# Altium footprint library DIODES PTH.PcbLib: 160 footprints (part 4 of 10)
Each footprint in its own frame and in the unit in brackets; x right, y up, seen from the top. Pads: shape width x height; smd on the part's side, far side on the other; paste and mask are expansions set on the pad; w line width, h text height; cw(c..) or ccw(c..) is an arc to the next point about the centre after c.
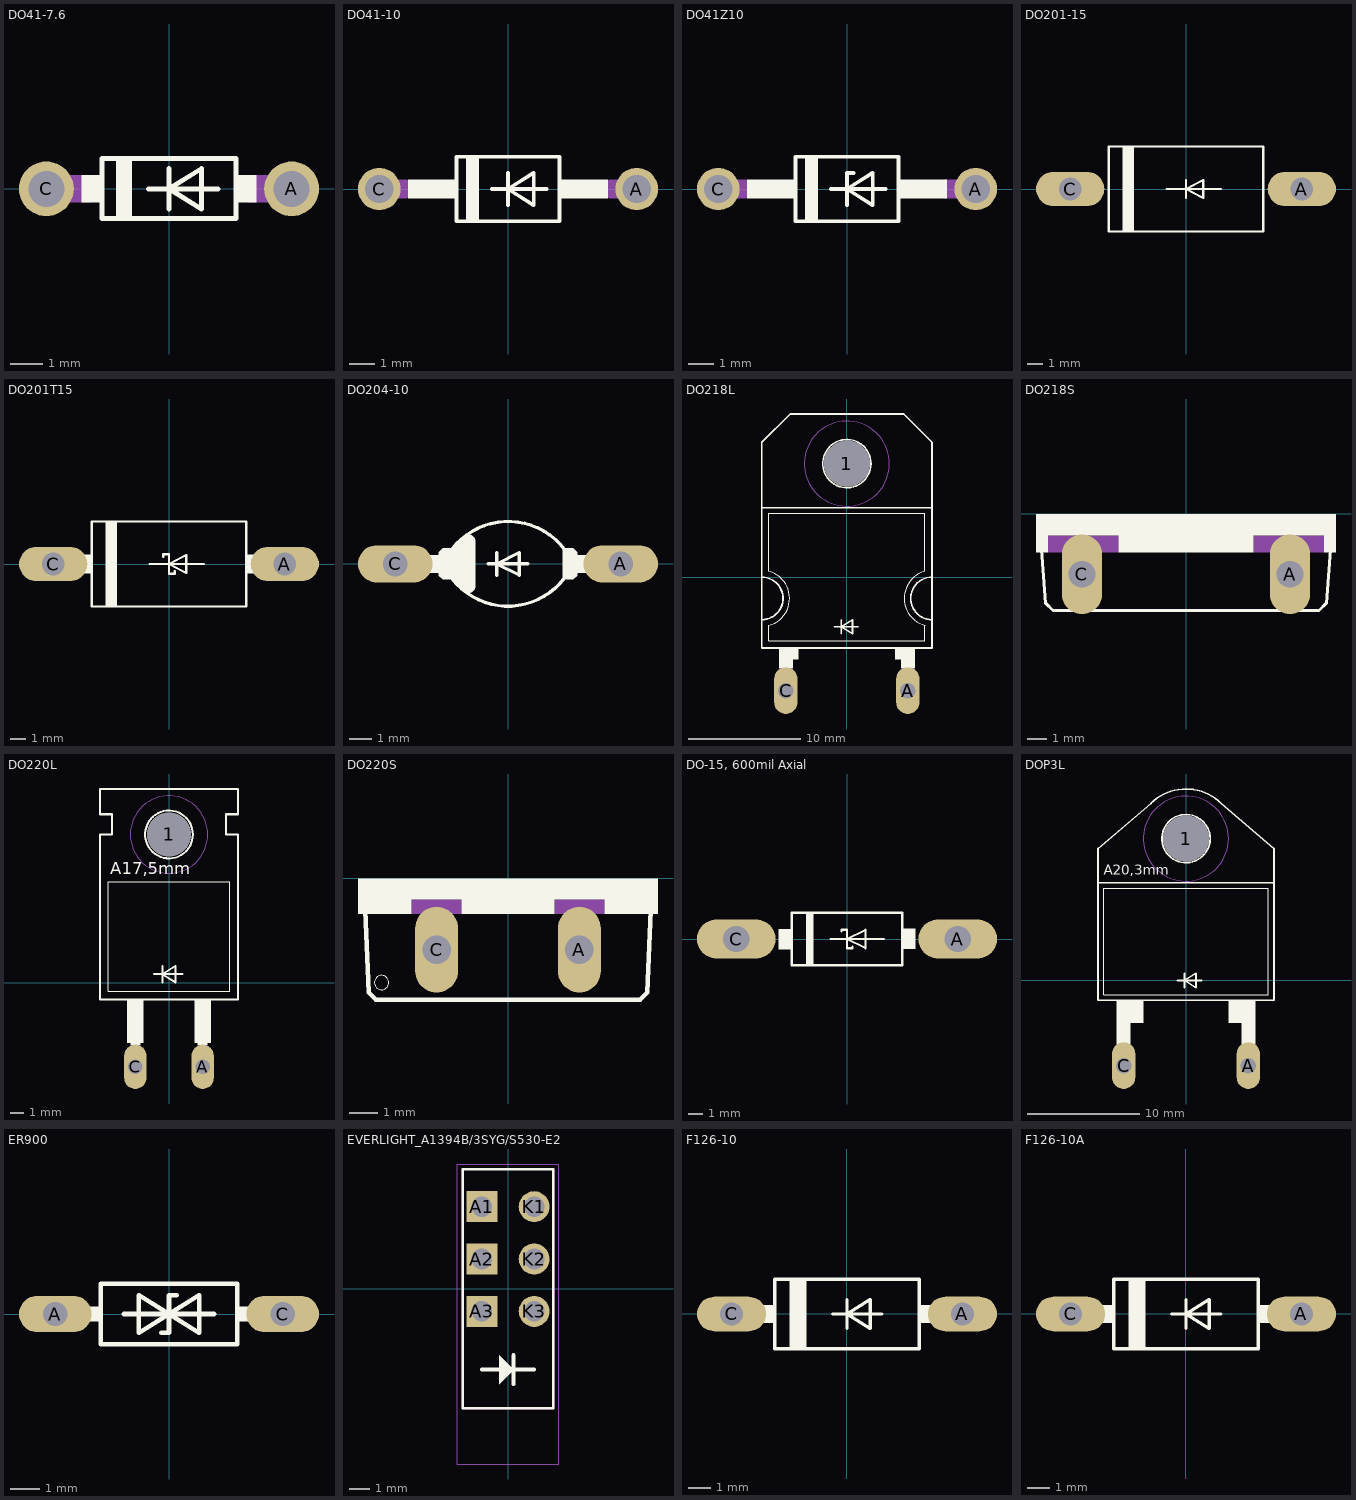
[diagram p3: the footprints below, top view; thin cyan lines are the x and y axes]

## DO41-7.6 [mil]
pads (2):
  round 67 hole 44: A(150,0) C(-150,0)
Top Overlay:
  rectangle: -65,-37.4 -45,37
  rectangle: 82,-16.73 107,17
  rectangle: -106.97,-16.73 -81.97,17
  lines w6: -25,0 0,0 ; 0,-25 0,0 ; 0,25 0,0 ; 60,0 0,0 ; 0,0 40,-25 40,25 0,0 ; -81.97,-36.22 82,-36.22 82,37 -81.97,37 -81.97,-36.22
Mechanical 16:
  lines w34: -150,0 -99.17,0 ; 99,0 150,0
3D body "User Library-DO-41-30.step": height 99.61, standoff -78.74, extent -163.76,-47.28 163.79,47.28

## DO41-10 [mil]
pads (2):
  round 66 hole 44: A(200,0) C(-200,0)
Top Overlay:
  rectangle: -65,-50 -45,50
  rectangle: 80,-15 155,15
  rectangle: -155,-15 -80,15
  lines w6: -25,0 0,0 ; 0,-25 0,0 ; 0,25 0,0 ; 60,0 0,0 ; 0,0 40,-25 40,25 0,0 ; -80,-50 80,-50 80,50 -80,50 -80,-50
Mechanical 16:
  lines w30: -200,0 -160,0 ; 160,0 200,0
3D body "User Library-DO-41-40.step": height 99.61, standoff -78.74, extent -213.78,-47.28 213.78,47.28

## DO41Z10 [mil]
pads (2):
  round 66 hole 44: A(200,0) C(-200,0)
Top Overlay:
  rectangle: -155,-15 -80,15
  rectangle: 80,-15 155,15
  rectangle: -65,-50 -45,50
  lines w6: -25,0 0,0 ; 0,-25 0,0 ; 10,25 0,25 0,0 ; 60,0 0,0 ; 0,0 40,25 40,-25 0,0 ; -80,-50 -80,50 80,50 80,-50 -80,-50
Mechanical 16:
  lines w30: -200,0 -160,0 ; 155,0 200,0
3D body "User Library-DO-41-40.step": height 99.61, standoff -78.74, extent -213.78,-47.28 213.78,47.28

## DO201-15 [mil]
pads (2):
  oval 177x88.5 hole 59: A(300,0) C(-300,0)
Top Overlay:
  rectangle: -165,-110 -135,110
  lines w6: -50,0 0,0 ; 0,-23 0,0 ; 0,23 0,0 ; 90,0 0,0 ; 0,0 45,-23 45,23 0,0 ; -200,-110 200,-110 200,110 -200,110 -200,-110
Mechanical 16:
  lines w50: -300,0 -245,0 ; 245,0 300,0
3D body "User Library-DO-201AD 15_24mm.step": height 222.44, standoff -137.8, extent -316.93,-104.33 316.93,104.33

## DO201T15 [mil]
pads (2):
  oval 177x88.5 hole 59: A(300,0) C(-300,0)
Top Overlay:
  rectangle: -165,-110 -135,110
  rectangle: -235,-25 -200,25
  rectangle: 200,-25 235,25
  lines w6: -50,0 0,0 ; -15,18 -15,25 0,25 0,0 ; 15,-18 15,-25 0,-25 0,0 ; 90,0 0,0 ; 0,0 45,23 45,-23 0,0 ; -200,-110 -200,110 200,110 200,-110 -200,-110
Mechanical 16:
  lines w50: -300,0 -245,0 ; 245,0 300,0
3D body "User Library-DO-201AD 15_24mm.step": height 222.44, standoff -137.8, extent -316.93,-104.33 316.93,104.33

## DO204-10 [mil]
pads (2):
  oval 132x66 hole 44: A(200,0) C(-200,0)
Top Overlay:
  rectangle: -142,-16 -120,16
  rectangle: 120,-16 142,16
  lines w6: -99.43,-25.76 ccw(c0,50) 100,-25 ; -35,0 -20,0 ; -20,-20 -20,0 ; -20,20 -20,0 ; 35,0 -20,0 ; 100,26 ccw(c0.38,-50.09) -100,25 ; -100,25 -115,25 -120,20 -120,-20 -115,-25 -100,-25 -100,25 ; -20,0 20,20 20,-20 -20,0 ; 100,-25 115,-25 120,-20 120,20 115,25 100,25 100,-25
  lines w24: -110,-15 -110,15 ; -80,-30 -90,-20 -90,20 -80,30 ; -70,-40 -70,40 ; 110,-15 110,15
Mechanical 16:
  lines w32: -200,0 -145,0 ; 145,0 200,0

## DO218L [mil]
pads (3):
  round 162 hole 162: 1(0,400)
  oval 82.5x165 hole 55: A(215,-400) C(-215,-400)
Top Overlay:
  circle w6: c0,400 r85
  rectangle: -240,-290 -170,-250
  rectangle: 170,-290 240,-250
  rectangle: -240,-320 -190,-250
  rectangle: 190,-320 240,-250
  lines w2: 274,20 ccw(c300.69,-74.73) 276,-169.99 ; 275,-170 275,-225 -275,-225 -275,-170 ccw(c-300,-75) -275,20 -275,225 275,225 275,20
  lines w6: -45,-175 -20,-175 ; -20,-200 -20,-175 ; -20,-150 -20,-175 ; 40,-175 -20,-175 ; -300,-150 ccw(c-300,-75) -300,0 ; -300,-150 -300,-250 300,-250 300,-150 ; -300,-150 -300,0 ; -300,0 -300,245 ; -300,245 300,245 ; -300,245 -300,475 -200,575 200,575 300,475 300,245 ; -20,-175 20,-200 20,-150 -20,-175 ; 300,-150 cw(c300,-75) 300,0 ; 300,-150 300,0 ; 300,0 300,245
Mechanical 9:
  circle w0: c0,400 r150
Mechanical 10:
  circle w0: c0,400 r150
Mechanical 16:
  rectangle: -240,-400 -190,-320
  rectangle: 190,-400 240,-320

## DO218S [mil]
pads (2):
  oval 82.5x165 hole 55: A(215,-125) C(-215,-125)
Top Overlay:
  rectangle: -310,-45 310,0
  rectangle: -310,-80 -285,-45
  rectangle: 285,-80 310,-45
  rectangle: -140,-80 140,-45
  lines w6: -300,-60 -290,-185 -275,-200 275,-200 290,-185 300,-60
Mechanical 16:
  rectangle: 140,-80 285,-45
  rectangle: -285,-80 -140,-45

## DO220L [mil]
pads (3):
  round 130 hole 130: 1(0,440)
  oval 66x132 hole 44: A(100,-250) C(-100,-250)
Top Overlay:
  circle w6: c0,440 r71
  rectangle: -125,-180 -75,-50
  rectangle: 75,-180 125,-50
  rectangle: 85,-185 115,-180
  rectangle: -115,-185 -85,-180
  lines w2: -180,-25 180,-25 180,300 -180,300 -180,-25
  lines w6: -45,25 -20,25 ; -20,0 -20,25 ; -20,50 -20,25 ; 40,25 -20,25 ; -20,25 20,0 20,50 -20,25 ; -205,-50 205,-50 205,440 170,440 170,500 205,500 205,575 -205,575 -205,500 -170,500 -170,440 -205,440 -205,-50
  text "A17,5mm" at -175,310 h60.45
Mechanical 9:
  circle w0: c0,440 r115
Mechanical 10:
  circle w0: c0,440 r115
Mechanical 16:
  rectangle: 85,-250 115,-185
  rectangle: -115,-250 -85,-185

## DO220S [mil]
pads (2):
  oval 60x120 hole 40: A(100,-100) C(-100,-100)
Top Overlay:
  circle w0: c-177,-146 r10
  rectangle: -210,-30 210,0
  rectangle: -210,-50 -135,-30
  rectangle: 135,-50 210,-30
  rectangle: -65,-50 65,-30
  lines w6: -200,-45 -195,-160 -185,-170 185,-170 195,-160 200,-45
Mechanical 16:
  rectangle: -135,-50 -65,-30
  rectangle: 65,-50 135,-30

## DO-15, 600mil Axial [mil]
pads (2):
  oval 213x106.5 hole 71: A(300,0) C(-300,0)
Top Overlay:
  rectangle: -110.63,-70.88 -90.63,70.85
  rectangle: 149.61,-27.56 185.61,28.44
  rectangle: -185.6,-28.44 -149.6,27.56
  lines w6: -45,0 0,0 ; -15,20 -15,25 0,25 0,0 ; 15,-20 15,-25 0,-25 0,0 ; 100,0 0,0 ; 0,0 50,25 50,-25 0,0 ; -149.61,-70.87 -149.61,70.87 149.61,70.87 149.61,-70.87 -149.61,-70.87
Mechanical 16:
  lines w58: -300,0 -230,0 ; 230,0 300,0
3D body "User Library-DO-15-60.step": height 138.88, standoff -78.74, extent -320.67,-68.84 320.67,68.84

## DOP3L [mil]
pads (3):
  round 162 hole 162: 1(0,500)
  oval 82.5x165 hole 55: A(220,-300) C(-220,-300)
Top Overlay:
  circle w6: c0,500 r85
  rectangle: 195,-225 245,-150
  rectangle: -245,-225 -195,-150
  rectangle: 150,-150 245,-70
  rectangle: -245,-150 -150,-70
  lines w2: -290,-50 -290,325 290,325 290,-50 -290,-50
  lines w6: -123.74,624 cw(c-0.31,500.13) 0,675 cw(c0.44,499.82) 124,624 ; -123,624 -310,465 -310,345 ; -30,0 -5,0 ; -5,-25 -5,0 ; -5,25 -5,0 ; 55,0 -5,0 ; 123,625 310,465 310,345 ; -310,345 310,345 ; -310,345 -310,-70 310,-70 310,345 ; -5,0 35,25 35,-25 -5,0
  text "A20,3mm" at -290,360 h60.45
Mechanical 9:
  circle w0: c0,500 r150
Mechanical 10:
  circle w0: c0,500 r150
Mechanical 16:
  rectangle: 195,-300 245,-225
  rectangle: -245,-300 -195,-225

## ER900 [mil]
pads (2):
  oval 96x48 hole 32: A(-150,0) C(150,0)
Top Overlay:
  rectangle: 90,-10 115,10
  rectangle: -115,-10 -90,10
  lines w6: -60,0 0,0 ; -10,-25 0,-25 0,0 ; 10,25 0,25 0,0 ; 60,0 0,0 ; 0,0 40,-25 40,25 0,0 ; 0,0 -40,25 -40,-25 0,0 ; -90,-40 90,-40 90,40 -90,40 -90,-40
Mechanical 16:
  lines w20: -150,0 -115,0 ; 115,0 150,0

## EVERLIGHT_A1394B/3SYG/S530-E2 [mm]
pads (6):
  rect 1.5x1.5 hole 1: A1(-1.27,3.98) A2(-1.27,1.44) A3(-1.27,-1.1)
  round 1.5 hole 1: K1(1.27,3.98) K2(1.27,1.44) K3(1.27,-1.1)
Top Overlay:
  region: 0.275,-3.925 -0.425,-3.225 -0.425,-4.625
  lines w0.127: -2.2,-5.8 -2.2,5.8 2.2,5.8 2.2,-5.8 -2.2,-5.8
  lines w0.2: -1.27,-3.925 -0.425,-3.925 ; -0.025,-3.925 1.27,-3.925 ; 0.275,-4.625 0.275,-3.925 0.275,-3.225
Mechanical 1:
  lines w0.1: -2.2,-5.8 -2.2,5.8 2.2,5.8 2.2,-5.8 -2.2,-5.8
Mechanical 15:
  lines w0.05: -2.45,-8.5 -2.45,6.05 2.45,6.05 2.45,-8.5 -2.45,-8.5
3D body "934SA.STEP": height 15.27, standoff -3.47, extent -2.16,-8.25 2.16,5.8

## F126-10 [mil]
pads (2):
  oval 120x60 hole 40: A(200,0) C(-200,0)
Top Overlay:
  rectangle: -100,-60 -70,60
  rectangle: 125,-16 147,16
  rectangle: -147,-16 -125,16
  lines w6: -25,0 0,0 ; 0,-25 0,0 ; 0,25 0,0 ; 60,0 0,0 ; 0,0 40,-25 40,25 0,0 ; -125,-60 125,-60 125,60 -125,60 -125,-60
Mechanical 16:
  lines w32: -200,0 -150,0 ; 150,0 200,0

## F126-10A [mil]
pads (2):
  oval 120x60 hole 40: A(200,0) C(-200,0)
Top Overlay:
  rectangle: -100,-60 -70,60
  rectangle: 125,-16 147,16
  rectangle: -147,-16 -125,16
  lines w6: -25,0 0,0 ; 0,-25 0,0 ; 0,25 0,0 ; 60,0 0,0 ; 0,0 40,-25 40,25 0,0 ; -125,-60 125,-60 125,60 -125,60 -125,-60
Mechanical 16:
  lines w32: -200,0 -150,0 ; 150,0 200,0